# Altium schematic symbol library AT24C02B.SchLib: 1 symbol
Pins are listed as number, name and electrical type; pins without a type are passive.

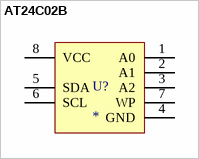
[diagram p0: symbol AT24C02B]

## AT24C02B
designator U?
Atmel 256x8 EEPROM; Part No.: AT24C02B; Manufacturer: Ateml; Vendor: Mouser; Price Est.: $0.39
footprint SOIC 8 (SOIC, 8-Leads, Body 5.0x4.0mm (max), Pitch 1.27mm, IPC Medium Density)
pins: 1 A0, 2 A1, 3 A2, 4 GND, 5 SDA, 6 SCL, 7 WP, 8 VCC